# EAGLE library part 83611-9006 (library connectors)
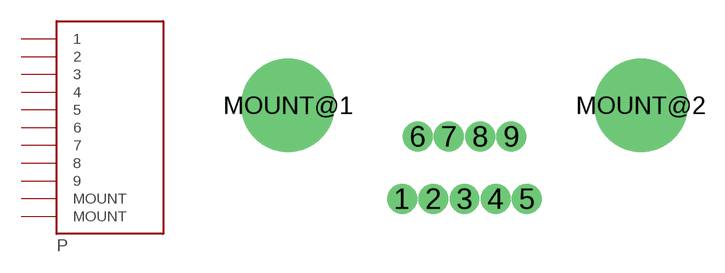
[diagram p1: symbol with the pads of 83611-9006; footprint 83611-9006]

Designator prefix P

## 83611-9006  [83611-9006]
1  1
2  2
3  3
4  4
5  5
6  6
7  7
8  8
9  9
MOUNT@1  MOUNT
MOUNT@2  MOUNT

## Footprint 83611-9006 (pad centres in mm)
drill 0.711 pad 1.016: 1 0,0; 2 1.27,0; 3 2.54,0; 4 3.81,0; 5 5.08,0; 6 0.635,2.54; 7 1.905,2.54; 8 3.175,2.54; 9 4.445,2.54
drill 2.794: MOUNT@1 -4.636,3.81; MOUNT@2 9.716,3.81